# Altium footprint library IC.PcbLib: 83 footprints (part 3 of 6)
Each footprint in its own frame and in the unit in brackets; x right, y up, seen from the top. Pads: shape width x height; smd on the part's side, far side on the other; paste and mask are expansions set on the pad; w line width, h text height; cw(c..) or ccw(c..) is an arc to the next point about the centre after c.
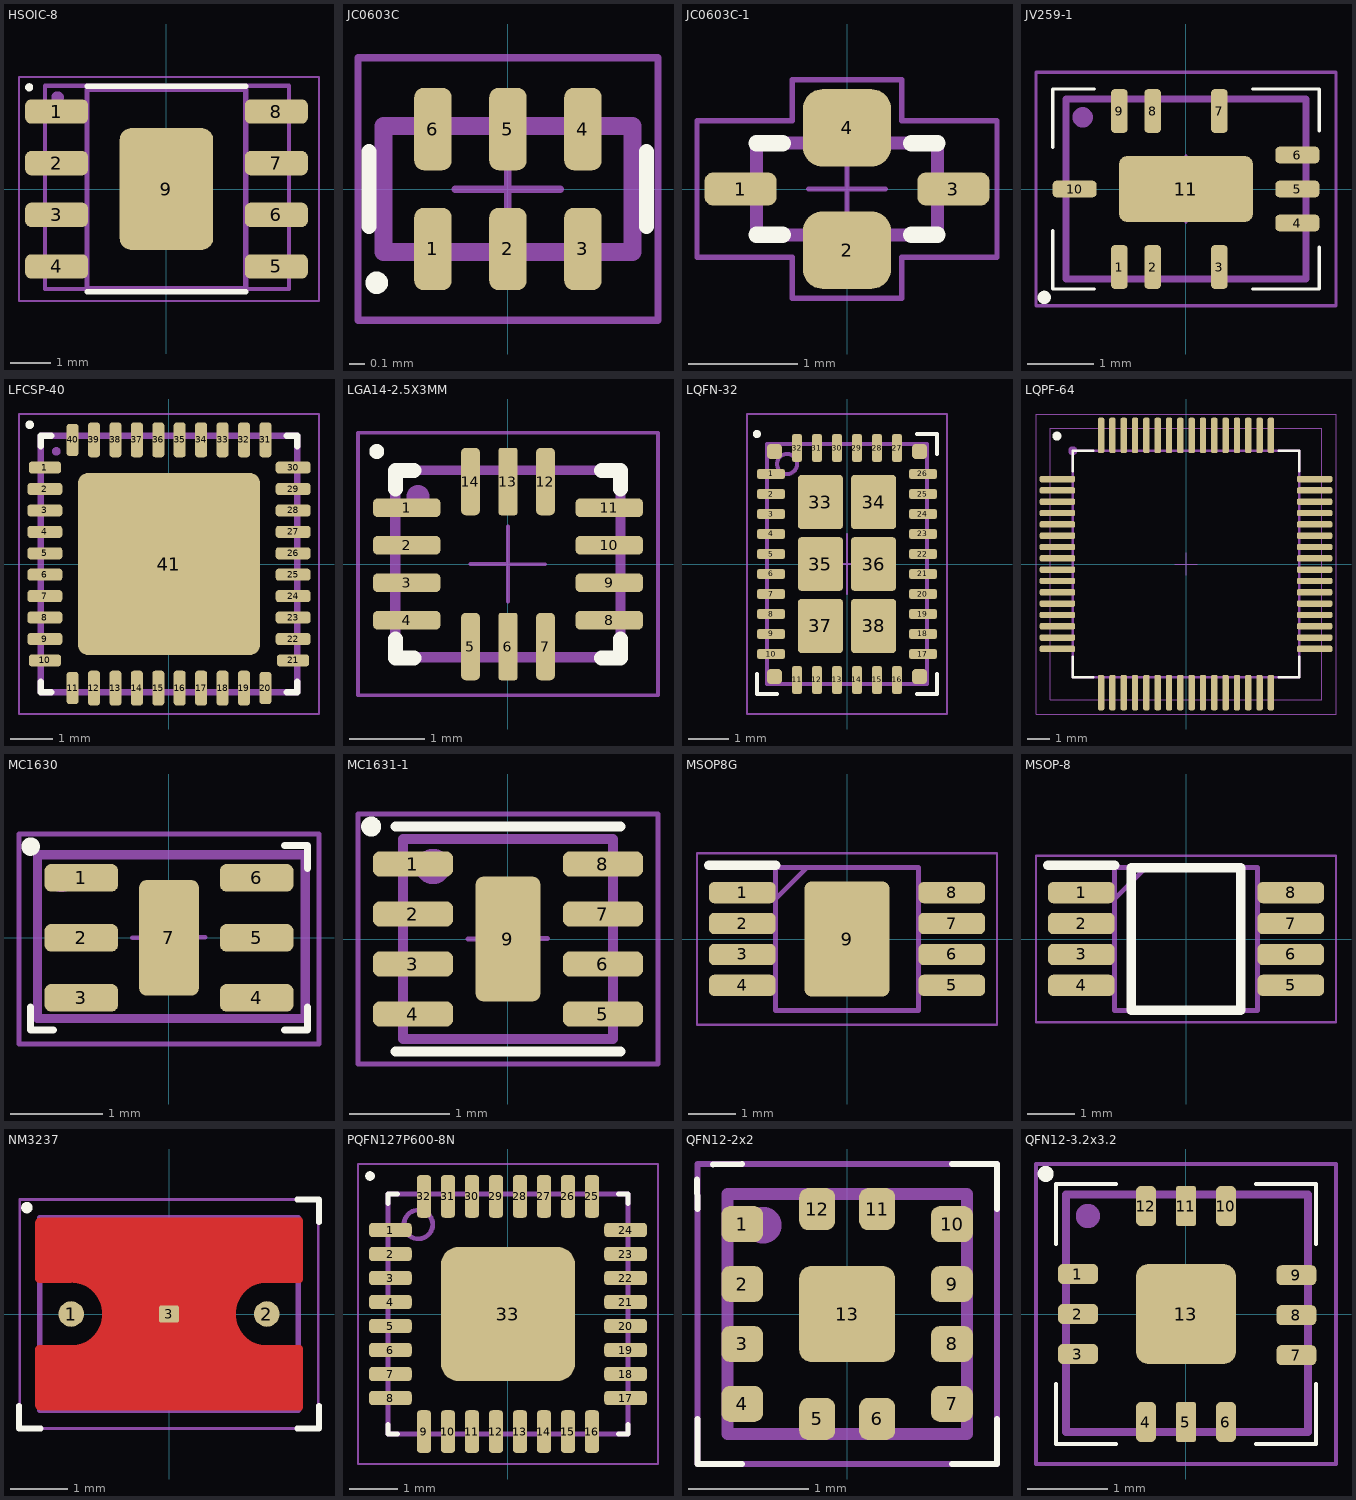
[diagram p2: the footprints below, top view; thin cyan lines are the x and y axes]

## HSOIC-8 [mm]
pads (9):
  rrect50% 1.55x0.6 smd: 1(-2.7,1.905) 2(-2.7,0.635) 3(-2.7,-0.635) 4(-2.7,-1.905) 5(2.7,-1.905) 6(2.7,-0.635) 7(2.7,0.635) 8(2.7,1.905)
  rrect25% 2.3x3 smd: 9(0,0)
Top Overlay:
  circle w0.1: c-3.375,2.5 r0.05
  lines w0.127: -1.95,-2.525 1.95,-2.525 ; -1.95,2.525 1.95,2.525
Top Assembly:
  circle w0.254: c-2.675,2.25 r0.025
  lines w0.1: -2.987,-2.462 3.013,-2.462 3.013,2.538 -2.987,2.538 -2.987,-2.462
  text ".Designator" at -1.126,-0.113 h0.5
Top 3D Body:
  lines w0.127: -1.95,-2.45 -1.95,2.45 1.95,2.45 1.95,-2.45 -1.95,-2.45
Top Courtyard:
  lines w0.05: -0.5,0 0,0 ; 0,-0.5 0,0 ; 0,0.5 0,0 ; 0.5,0 0,0 ; -3.625,-2.75 3.75,-2.75 3.75,2.75 -3.625,2.75 -3.625,-2.75
3D body "step_temp.STEP": height 1.7, standoff 0, extent -3,-2.45 3,2.45

## JC0603C [mm]
pads (6):
  rrect50% 0.25x0.55 smd: 1(-0.5,-0.4) 2(0,-0.4) 3(0.5,-0.4) 4(0.5,0.4) 5(0,0.4) 6(-0.5,0.4)
Top Overlay:
  circle w0.1: c-0.875,-0.625 r0.025
  lines w0.1: -0.925,-0.25 -0.925,0.25 ; 0.925,-0.25 0.925,0.25
Top Assembly:
  lines w0.12: -0.83,-0.42 0.83,-0.42 0.83,0.42 -0.83,0.42 -0.83,-0.42
  text ".Designator" at -0.674,-0.068 h0.3
Top Courtyard:
  lines w0.05: -0.35,0 0.35,0 ; 0,-0.35 0,0.35 ; -1,-0.875 1,-0.875 1,0.875 -1,0.875 -1,-0.875
3D body "HFCW-6010---3DModel-STEP-56544.STEP": height 0.6, standoff 0, extent -0.8,-0.4 0.8,0.4

## JC0603C-1 [mm]
pads (4):
  rrect50% 0.66x0.3 smd: 1(-0.975,0) 3(0.975,0)
  rrect50% 0.81x0.71 smd: 2(0,-0.56) 4(0,0.56)
Top Overlay:
  lines w0.15: -0.83,-0.42 -0.59,-0.42 ; -0.83,0.42 -0.59,0.42 ; 0.59,-0.42 0.83,-0.42 ; 0.59,0.42 0.83,0.42
Top Assembly:
  lines w0.12: -0.83,-0.42 -0.83,0.42 0.83,0.42 0.83,-0.42 -0.83,-0.42
  text ".Designator" at -0.674,-0.068 h0.3
Top Courtyard:
  lines w0.05: -0.35,0 0.35,0 ; 0,-0.35 0,0.35 ; -1.375,-0.625 -0.5,-0.625 -0.5,-1 0,-1 0.5,-1 0.5,-0.625 1.375,-0.625 1.375,-0.25 1.375,0 1.375,0.25 1.375,0.625 0.5,0.625 0.5,1 0,1 -0.5,1 -0.5,0.625 -1.375,0.625 -1.375,0.25 -1.375,0 -1.375,-0.25 -1.375,-0.625
3D body "CAPCAF4P0_160X79X61L15X71.STEP": height 0.61, standoff 0, extent -0.85,-0.445 0.85,0.445

## JV259-1 [mm]
pads (11):
  rrect50% 0.25x0.66 smd: 1(-1,-1.17) 2(-0.5,-1.17) 3(0.5,-1.17) 7(0.5,1.17) 8(-0.5,1.17) 9(-1,1.17)
  rrect50% 0.66x0.25 smd: 4(1.67,-0.51) 5(1.67,0) 6(1.67,0.51) 10(-1.67,0)
  rrect25% 2.01x0.99 smd: 11(0,0)
Top Overlay:
  circle w0.1: c-2.127,-1.626 r0.05
  lines w0.05: -2,-0.625 -2,-1.5 -1.375,-1.5 ; -2,0.625 -2,1.5 -1.375,1.5 ; 1,-1.5 2,-1.5 2,-0.875 ; 1,1.5 2,1.5 2,0.875
Top Paste:
  region: 0.875,0.398 0.104,0.398 0.104,-0.398 0.875,-0.398
  rectangle: -0.875,-0.398 -0.104,0.398
Top Assembly:
  circle w0.254: c-1.55,1.075 r0.025
  lines w0.1: -1.8,-1.35 1.8,-1.35 1.8,1.35 -1.8,1.35 -1.8,-1.35
  text ".Designator" at -1.126,-0.113 h0.5
Top Courtyard:
  lines w0.05: -0.5,0 0,0 ; 0,-0.5 0,0 ; 0,0.5 0,0 ; 0.5,0 0,0 ; -2.25,-1.75 2.25,-1.75 2.25,1.75 -2.25,1.75 -2.25,-1.75

## LFCSP-40 [mm]
pads (41):
  rrect50% 0.75x0.28 smd: 1(-2.896,2.25) 10(-2.896,-2.25) 21(2.896,-2.25)
  rrect50% 0.813x0.28 smd: 2(-2.896,1.75) 3(-2.896,1.25) 4(-2.896,0.75) 5(-2.896,0.25) 6(-2.896,-0.25) 7(-2.896,-0.75) 8(-2.896,-1.25) 9(-2.896,-1.75) 22(2.896,-1.75) 23(2.896,-1.25) 24(2.896,-0.75) 25(2.896,-0.25) 26(2.896,0.25) 27(2.896,0.75) 28(2.896,1.25) 29(2.896,1.75)
  rrect50% 0.28x0.75 smd: 11(-2.25,-2.896) 20(2.25,-2.896) 40(-2.25,2.896)
  rrect50% 0.28x0.813 smd: 12(-1.75,-2.896) 13(-1.25,-2.896) 14(-0.75,-2.896) 15(-0.25,-2.896) 16(0.25,-2.896) 17(0.75,-2.896) 18(1.25,-2.896) 19(1.75,-2.896) 32(1.75,2.896) 33(1.25,2.896) 34(0.75,2.896) 35(0.25,2.896) 36(-0.25,2.896) 37(-0.75,2.896) 38(-1.25,2.896) 39(-1.75,2.896)
  rrect50% 0.813x0.28 smd mask+0: 30(2.896,2.25)
  rrect50% 0.28x0.813 smd mask+0: 31(2.25,2.896)
  rrect10% 4.242x4.242 smd: 41(0,0)
Top Overlay:
  circle w0.1: c-3.25,3.25 r0.05
  lines w0.152: -2.997,-2.743 -2.997,-2.997 -2.743,-2.997 ; -2.997,2.743 -2.997,2.997 -2.743,2.997 ; 2.743,-2.997 2.997,-2.997 2.997,-2.743 ; 2.743,2.997 2.997,2.997 2.997,2.743
Top Assembly:
  circle w0.1: c-2.631,2.628 r0.05
  lines w0.152: -2.997,-2.388 -2.997,-2.108 ; -2.997,-1.905 -2.997,-1.6 ; -2.997,-1.397 -2.997,-1.092 ; -2.997,-0.889 -2.997,-0.61 ; -2.997,-0.406 -2.997,-0.102 ; -2.997,0.102 -2.997,0.406 ; -2.997,0.61 -2.997,0.889 ; -2.997,1.092 -2.997,1.397 ; -2.997,1.6 -2.997,1.905 ; -2.997,2.108 -2.997,2.388 ; -2.388,-2.997 -2.108,-2.997 ; -2.388,2.997 -2.108,2.997 ; -1.905,-2.997 -1.6,-2.997 ; -1.905,2.997 -1.6,2.997 ; -1.397,-2.997 -1.092,-2.997 ; -1.397,2.997 -1.092,2.997 ; -0.889,-2.997 -0.61,-2.997 ; -0.889,2.997 -0.61,2.997 ; -0.406,-2.997 -0.102,-2.997 ; -0.406,2.997 -0.102,2.997 ; 0.102,-2.997 0.406,-2.997 ; 0.102,2.997 0.406,2.997 ; 0.61,-2.997 0.889,-2.997 ; 0.61,2.997 0.889,2.997 ; 1.092,-2.997 1.397,-2.997 ; 1.092,2.997 1.397,2.997 ; 1.6,-2.997 1.905,-2.997 ; 1.6,2.997 1.905,2.997 ; 2.108,-2.997 2.388,-2.997 ; 2.108,2.997 2.388,2.997 ; 2.997,-2.388 2.997,-2.108 ; 2.997,-1.905 2.997,-1.6 ; 2.997,-1.397 2.997,-1.092 ; 2.997,-0.889 2.997,-0.61 ; 2.997,-0.406 2.997,-0.102 ; 2.997,0.102 2.997,0.406 ; 2.997,0.61 2.997,0.889 ; 2.997,1.092 2.997,1.397 ; 2.997,1.6 2.997,1.905 ; 2.997,2.108 2.997,2.388 ; -2.997,-2.997 2.997,-2.997 2.997,2.997 -2.997,2.997 -2.997,-2.997
  text ".Designator" at -3.378,-0.339 h1.5
Top Courtyard:
  lines w0.05: -0.45,0 0,0 ; 0,-0.45 0,0 ; 0,0.45 0,0 ; 0.45,0 0,0 ; -3.5,-3.5 3.5,-3.5 3.5,3.5 -3.5,3.5 -3.5,-3.5
3D body "step_temp.STEP": height 1, standoff 0, extent -3,-3 3,3

## LGA14-2.5X3MM [mm]
pads (14):
  rrect50% 0.9x0.25 smd: 1(-1.35,0.75) 2(-1.35,0.25) 3(-1.35,-0.25) 4(-1.35,-0.75) 8(1.35,-0.75) 9(1.35,-0.25) 10(1.35,0.25) 11(1.35,0.75)
  rrect50% 0.25x0.9 smd: 5(-0.5,-1.1) 7(0.5,-1.1) 12(0.5,1.1) 14(-0.5,1.1)
  rrect25% 0.25x0.9 smd: 6(0,-1.1) 13(0,1.1)
Top Overlay:
  circle w0.1: c-1.75,1.5 r0.05
  lines w0.2: -1.5,-1 -1.5,-1.25 -1.25,-1.25 ; -1.5,1 -1.5,1.25 -1.25,1.25 ; 1.25,-1.25 1.5,-1.25 1.5,-1 ; 1.25,1.25 1.5,1.25 1.5,1
Top Assembly:
  circle w0.254: c-1.2,0.9 r0.025
  lines w0.1: -1.525,-1.225 1.5,-1.225 1.5,1.25 -1.525,1.25 -1.525,-1.225
  text ".Designator" at -1.126,-0.113 h0.5
Top 3D Body:
  lines w0.127: -1.5,-1.25 -1.5,1.25 1.5,1.25 1.5,-1.25 -1.5,-1.25
Top Courtyard:
  lines w0.05: -0.5,0 0,0 ; -0.004,-0.003 0.496,-0.003 ; 0,-0.5 0,0 ; 0,0.5 0,0 ; -2,-1.75 2,-1.75 2,1.75 -2,1.75 -2,-1.75
3D body "step_temp.STEP": height 0.96, standoff 0, extent -1.5,-1.25 1.5,1.25

## LQFN-32 [mm]
pads (42):
  rrect50% 0.7x0.25 smd: 1(-1.9,2.25) 2(-1.9,1.75) 3(-1.9,1.25) 4(-1.9,0.75) 5(-1.9,0.25) 6(-1.9,-0.25) 7(-1.9,-0.75) 8(-1.9,-1.25) 9(-1.9,-1.75) 10(-1.9,-2.25) 17(1.9,-2.25) 18(1.9,-1.75) 19(1.9,-1.25) 20(1.9,-0.75) 21(1.9,-0.25) 22(1.9,0.25) 23(1.9,0.75) 24(1.9,1.25) 25(1.9,1.75) 26(1.9,2.25)
  rrect50% 0.25x0.7 smd: 11(-1.25,-2.9) 12(-0.75,-2.9) 13(-0.25,-2.9) 14(0.25,-2.9) 15(0.75,-2.9) 16(1.25,-2.9) 27(1.25,2.9) 28(0.75,2.9) 29(0.25,2.9) 30(-0.25,2.9) 31(-0.75,2.9) 32(-1.25,2.9)
  rrect15% 1.125x1.355 smd: 33(-0.663,1.548) 34(0.663,1.548) 37(-0.663,-1.548) 38(0.663,-1.548)
  rrect15% 1.125x1.34 smd: 35(-0.663,0) 36(0.663,0)
  rrect50% 0.375x0.375 smd: ""(-1.813,-2.813) ""(-1.813,2.813) ""(1.813,-2.813) ""(1.813,2.813)
Top Overlay:
  circle w0.1: c-2.25,3.25 r0.05
  lines w0.1: -2.25,-2.75 -2.25,-3.25 -1.75,-3.25 ; 1.75,-3.25 2.25,-3.25 2.25,-2.75 ; 1.75,3.25 2.25,3.25 2.25,2.75
Top Assembly:
  circle w0.1: c-1.5,2.5 r0.25
  lines w0.1: -2,-3 -2,3 2,3 2,-3 -2,-3
  text ".Designator" at -2.252,-0.226 h1
Top Courtyard:
  lines w0.05: -0.75,0 0,0 ; 0,-0.75 0,0 ; 0,0.75 0,0 ; 0.75,0 0,0 ; -2.5,-3.75 2.5,-3.75 2.5,3.75 -2.5,3.75 -2.5,-3.75
3D body "LT8645S.stp": height 1.13, standoff 0, extent -2,-3 2,3

## LQPF-64 [mm]
pads (64):
  rrect50% 1.56x0.28 smd: 1(-5.68,3.75) 2(-5.68,3.25) 3(-5.68,2.75) 4(-5.68,2.25) 5(-5.68,1.75) 6(-5.68,1.25) 7(-5.68,0.75) 8(-5.68,0.25) 9(-5.68,-0.25) 10(-5.68,-0.75) 11(-5.68,-1.25) 12(-5.68,-1.75) 13(-5.68,-2.25) 14(-5.68,-2.75) 15(-5.68,-3.25) 16(-5.68,-3.75) 33(5.68,-3.75) 34(5.68,-3.25) 35(5.68,-2.75) 36(5.68,-2.25) 37(5.68,-1.75) 38(5.68,-1.25) 39(5.68,-0.75) 40(5.68,-0.25) 41(5.68,0.25) 42(5.68,0.75) 43(5.68,1.25) 44(5.68,1.75) 45(5.68,2.25) 46(5.68,2.75) 47(5.68,3.25) 48(5.68,3.75)
  rrect50% 0.28x1.56 smd: 17(-3.75,-5.68) 18(-3.25,-5.68) 19(-2.75,-5.68) 20(-2.25,-5.68) 21(-1.75,-5.68) 22(-1.25,-5.68) 23(-0.75,-5.68) 24(-0.25,-5.68) 25(0.25,-5.68) 26(0.75,-5.68) 27(1.25,-5.68) 28(1.75,-5.68) 29(2.25,-5.68) 30(2.75,-5.68) 31(3.25,-5.68) 32(3.75,-5.68) 49(3.75,5.68) 50(3.25,5.68) 51(2.75,5.68) 52(2.25,5.68) 53(1.75,5.68) 54(1.25,5.68) 55(0.75,5.68) 56(0.25,5.68) 57(-0.25,5.68) 58(-0.75,5.68) 59(-1.25,5.68) 60(-1.75,5.68) 61(-2.25,5.68) 62(-2.75,5.68) 63(-3.25,5.68) 64(-3.75,5.68)
Top Overlay:
  circle w0.2: c-5.7,5.65 r0.1
  lines w0.127: -5,-4.1 -5,-5 -4.1,-5 ; -5,4.1 -5,5 -4.1,5 ; 4.1,-5 5,-5 5,-4.1 ; 4.1,5 5,5 5,4.1
Top Assembly:
  circle w0.2: c-5,5 r0.1
  lines w0.05: -6,-6 6,-6 6,6 -6,6 -6,-6
  text ".Designator" at -2.252,-0.226 h1
Top 3D Body:
  lines w0.127: -5,-5 -5,5 5,5 5,-5 -5,-5
Top Courtyard:
  lines w0.05: -0.5,0 0,0 ; 0,-0.5 0,0 ; 0,0.5 0,0 ; 0.5,0 0,0 ; -6.625,-6.625 6.625,-6.625 6.625,6.625 -6.625,6.625 -6.625,-6.625
3D body "FT4232HL.STEP": height 1.63, standoff 0.03, extent -6,-6 6,6

## MC1630 [mm]
pads (7):
  rrect50% 0.8x0.3 smd: 1(-0.95,0.65) 2(-0.95,0) 3(-0.95,-0.65) 4(0.95,-0.65) 5(0.95,0) 6(0.95,0.65)
  rrect25% 0.65x1.25 smd: 7(0,0)
Top Overlay:
  circle w0.1: c-1.499,0.989 r0.05
  lines w0.075: -1.5,-0.75 -1.5,-1 -1.25,-1 ; 1.25,-1 1.5,-1 1.5,-0.75 ; 1.25,1 1.5,1 1.5,0.75
Top Assembly:
  circle w0.254: c-1.168,0.649 r0.025
  lines w0.1: -1.425,-0.875 1.475,-0.875 1.475,0.9 -1.425,0.9 -1.425,-0.875
  text ".Designator" at -1.126,-0.113 h0.5
Top Courtyard:
  lines w0.05: -0.4,0 0,0 0,0.4 ; -0.005,0.006 0.395,0.006 ; -0.001,-0.398 -0.001,0.002 ; -1.625,-1.15 1.625,-1.15 1.625,1.125 -1.625,1.125 -1.625,-1.15
3D body "YAT-0A+.stp": height 0.85, standoff 0, extent -1.05,-1 1.05,1

## MC1631-1 [mm]
pads (9):
  rrect50% 0.8x0.25 smd: 1(-0.95,0.75) 2(-0.95,0.25) 3(-0.95,-0.25) 4(-0.95,-0.75) 5(0.95,-0.75) 6(0.95,-0.25) 7(0.95,0.25) 8(0.95,0.75)
  rrect25% 0.65x1.25 smd: 9(0,0)
Top Overlay:
  circle w0.1: c-1.368,1.125 r0.05
  lines w0.1: -1.125,-1.125 1.125,-1.125 ; -1.125,1.125 1.125,1.125
Top Assembly:
  circle w0.254: c-0.75,0.725 r0.05
  lines w0.1: -1.05,-1 1.05,-1 1.05,1 -1.05,1 -1.05,-1
  text ".Designator" at -1.126,-0.113 h0.5
Top Courtyard:
  lines w0.05: -0.399,0 0.001,0 0.001,0.4 ; -0.004,0.006 0.396,0.006 ; 0,-0.398 0,0.002 ; -1.5,-1.25 1.5,-1.25 1.5,1.25 -1.5,1.25 -1.5,-1.25
3D body "PMA2-183LN+.stp": height 1.05, standoff 0, extent -1.05,-1 1.05,1

## MSOP8G [mm]
pads (9):
  rrect50% 1.4x0.45 smd: 1(-2.2,0.975) 2(-2.2,0.325) 3(-2.2,-0.325) 4(-2.2,-0.975) 5(2.2,-0.975) 6(2.2,-0.325) 7(2.2,0.325) 8(2.2,0.975)
  rrect15% 1.78x2.41 smd paste-0.23: 9(0,0)
Top Overlay:
  lines w0.2: -2.9,1.55 -1.5,1.55
Top Assembly:
  lines w0.1: -1.5,0.85 -0.85,1.5 ; -1.5,-1.5 1.5,-1.5 1.5,1.5 -1.5,1.5 -1.5,-1.5
  text ".Designator" at -2.252,-0.226 h1
Top Courtyard:
  lines w0.05: -3.15,-1.8 3.15,-1.8 3.15,1.8 -3.15,1.8 -3.15,-1.8
3D body "HMC784AMS8GE.stp": height 1.1, standoff 0, extent -2.44,-1.5 2.44,1.5

## MSOP-8 [mm]
pads (8):
  rrect50% 1.4x0.45 smd: 1(-2.2,0.975) 2(-2.2,0.325) 3(-2.2,-0.325) 4(-2.2,-0.975) 5(2.2,-0.975) 6(2.2,-0.325) 7(2.2,0.325) 8(2.2,0.975)
Top Overlay:
  lines w0.2: -2.9,1.55 -1.5,1.55 ; -1.15,-1.5 -1.15,1.5 1.15,1.5 1.15,-1.5 -1.15,-1.5
Top Assembly:
  lines w0.1: -1.5,0.85 -0.85,1.5 ; -1.5,-1.5 -1.5,1.5 1.5,1.5 1.5,-1.5 -1.5,-1.5
  text ".Designator" at -2.252,-0.226 h1
Top Courtyard:
  lines w0.05: -3.15,-1.75 -3.15,1.75 3.15,1.75 3.15,-1.75 -3.15,-1.75
3D body "TC4428AEUA.stp": height 1.1, standoff 0, extent -2.45,-1.5 2.45,1.5

## NM3237 [mm]
pads (4):
  round 0.45 smd: 1(-1.72,0) 2(1.72,0)
  round 0.025 smd paste-2539.97: 3(0,0)
  rrect25% 0.35x0.3 smd paste-2539.97: 3(0,0)
Top Layer:
  region: -2.255,1.695 2.305,1.695 2.314,1.695 2.33,1.688 2.343,1.675 2.35,1.659 2.35,1.65 2.35,0.6 2.35,0.59 2.342,0.572 2.328,0.558 2.31,0.55 2.3,0.55 1.72,0.55 1.684,0.549 1.613,0.539 1.543,0.521 1.477,0.493 1.414,0.457 1.357,0.414 1.306,0.363 1.263,0.306 1.227,0.243 1.199,0.177 1.181,0.107 1.171,0.036 1.17,0 1.171,-0.036 1.181,-0.107 1.199,-0.177 1.227,-0.243 1.263,-0.306 1.306,-0.363 1.357,-0.414 1.414,-0.457 1.477,-0.493 1.543,-0.521 1.613,-0.539 1.684,-0.549 1.72,-0.55 2.3,-0.55 2.31,-0.55 2.328,-0.558 2.342,-0.572 2.35,-0.59 2.35,-0.6 2.35,-1.65 2.35,-1.659 2.343,-1.675 2.33,-1.688 2.314,-1.695 2.305,-1.695 -2.255,-1.695 -2.274,-1.695 -2.309,-1.681 -2.336,-1.654 -2.35,-1.619 -2.35,-1.6 -2.35,-0.625 -2.35,-0.61 -2.339,-0.582 -2.318,-0.561 -2.29,-0.55 -2.275,-0.55 -1.72,-0.55 -1.684,-0.549 -1.613,-0.539 -1.543,-0.521 -1.477,-0.493 -1.414,-0.457 -1.357,-0.414 -1.306,-0.363 -1.263,-0.306 -1.227,-0.243 -1.199,-0.177 -1.181,-0.107 -1.171,-0.036 -1.17,0 -1.171,0.036 -1.181,0.107 -1.199,0.177 -1.227,0.243 -1.263,0.306 -1.306,0.363 -1.357,0.414 -1.414,0.457 -1.477,0.493 -1.543,0.521 -1.613,0.539 -1.684,0.549 -1.72,0.55 -2.275,0.55 -2.29,0.55 -2.317,0.561 -2.339,0.583 -2.35,0.61 -2.35,0.625 -2.35,1.6 -2.35,1.619 -2.336,1.654 -2.309,1.681 -2.274,1.695
Top Overlay:
  circle w0.1: c-2.499,1.87 r0.05
  lines w0.1: -2.638,-1.616 -2.638,-2.013 -2.253,-2.013 ; 2.253,-2.013 2.638,-2.013 2.638,-1.616 ; 2.253,2.013 2.638,2.013 2.638,1.616
Top Paste:
  region: -2.163,-1.375 -2.163,-0.85 -2.163,-0.82 -2.14,-0.765 -2.097,-0.723 -2.042,-0.7 -2.013,-0.7 -0.337,-0.7 -0.308,-0.7 -0.253,-0.723 -0.21,-0.765 -0.187,-0.82 -0.187,-0.85 -0.187,-1.375 -0.187,-1.405 -0.21,-1.46 -0.253,-1.502 -0.308,-1.525 -0.337,-1.525 -2.013,-1.525 -2.042,-1.525 -2.097,-1.502 -2.14,-1.46 -2.163,-1.405
  region: 2.163,-1.375 2.163,-0.85 2.163,-0.82 2.14,-0.765 2.097,-0.723 2.042,-0.7 2.013,-0.7 0.337,-0.7 0.308,-0.7 0.253,-0.723 0.21,-0.765 0.187,-0.82 0.187,-0.85 0.187,-1.375 0.187,-1.405 0.21,-1.46 0.253,-1.502 0.308,-1.525 0.337,-1.525 2.013,-1.525 2.042,-1.525 2.097,-1.502 2.14,-1.46 2.163,-1.405
  region: 2.163,1.375 2.163,0.85 2.163,0.82 2.14,0.765 2.097,0.723 2.042,0.7 2.013,0.7 0.337,0.7 0.308,0.7 0.253,0.723 0.21,0.765 0.187,0.82 0.187,0.85 0.187,1.375 0.187,1.405 0.21,1.46 0.253,1.502 0.308,1.525 0.337,1.525 2.013,1.525 2.042,1.525 2.097,1.502 2.14,1.46 2.163,1.405
  region: -2.163,1.375 -2.163,0.85 -2.163,0.82 -2.14,0.765 -2.097,0.723 -2.042,0.7 -2.013,0.7 -0.337,0.7 -0.308,0.7 -0.253,0.723 -0.21,0.765 -0.187,0.82 -0.187,0.85 -0.187,1.375 -0.187,1.405 -0.21,1.46 -0.253,1.502 -0.308,1.525 -0.337,1.525 -2.013,1.525 -2.042,1.525 -2.097,1.502 -2.14,1.46 -2.163,1.405
  region: -0.988,0.275 -0.988,-0.25 -0.988,-0.28 -0.965,-0.335 -0.922,-0.377 -0.867,-0.4 -0.838,-0.4 0.838,-0.4 0.867,-0.4 0.922,-0.377 0.965,-0.335 0.988,-0.28 0.988,-0.25 0.988,0.275 0.988,0.305 0.965,0.36 0.922,0.402 0.867,0.425 0.838,0.425 -0.838,0.425 -0.867,0.425 -0.922,0.402 -0.965,0.36 -0.988,0.305
Top Assembly:
  circle w0.254: c-1.975,1.375 r0.056
  lines w0.1: -2.275,-1.695 2.275,-1.695 2.275,1.695 -2.275,1.695 -2.275,-1.695
  text ".Designator" at -1.126,-0.113 h0.5
Top Courtyard:
  lines w0.05: -0.4,0 0,0 ; 0,-0.4 0,0 ; 0,0.4 0,0 ; 0.4,0 0,0 ; -2.625,-2.013 2.625,-2.013 2.625,2.013 -2.625,2.013 -2.625,-2.013
3D body "BFHK-9901+.stp": height 1.49, standoff 0, extent -2.25,-1.6 2.25,1.6

## PQFN127P600-8N [mm]
pads (33):
  rrect50% 0.89x0.3 smd: 1(-2.45,1.75) 2(-2.45,1.25) 3(-2.45,0.75) 4(-2.45,0.25) 5(-2.45,-0.25) 6(-2.45,-0.75) 7(-2.45,-1.25) 8(-2.45,-1.75) 17(2.45,-1.75) 18(2.45,-1.25) 19(2.45,-0.75) 20(2.45,-0.25) 21(2.45,0.25) 22(2.45,0.75) 23(2.45,1.25) 24(2.45,1.75)
  rrect50% 0.3x0.89 smd: 9(-1.75,-2.45) 10(-1.25,-2.45) 11(-0.75,-2.45) 12(-0.25,-2.45) 13(0.25,-2.45) 14(0.75,-2.45) 15(1.25,-2.45) 16(1.75,-2.45) 25(1.75,2.45) 26(1.25,2.45) 27(0.75,2.45) 28(0.25,2.45) 29(-0.25,2.45) 30(-0.75,2.45) 31(-1.25,2.45) 32(-1.75,2.45)
  rrect25% 2.79x2.79 smd: 33(0,0)
Top Overlay:
  circle w0.1: c-2.875,2.875 r0.05
  lines w0.1: -2.5,-2.3 -2.5,-2.5 -2.3,-2.5 ; -2.5,2.3 -2.5,2.5 -2.3,2.5 ; 2.3,-2.5 2.5,-2.5 2.5,-2.3 ; 2.3,2.5 2.5,2.5 2.5,2.3
Top Assembly:
  circle w0.1: c-1.868,1.866 r0.3
  lines w0.1: -2.5,-2.5 2.5,-2.5 2.5,2.5 -2.5,2.5 -2.5,-2.5
  text ".Designator" at -1.126,-0.113 h0.5
Top Courtyard:
  lines w0.05: -0.5,0 0.5,0 ; 0,-0.5 0,0.5 ; -3.125,-3.125 3.125,-3.125 3.125,3.125 -3.125,3.125 -3.125,-3.125
3D body "PQFN127P600-8N.step": height 1, standoff 0, extent -2.5,-2.5 2.5,2.5

## QFN12-2x2 [mm]
pads (13):
  rrect50% 0.35x0.3 smd: 1(-0.875,0.75) 2(-0.875,0.25) 3(-0.875,-0.25) 4(-0.875,-0.75) 7(0.875,-0.75) 8(0.875,-0.25) 9(0.875,0.25) 10(0.875,0.75)
  rrect50% 0.3x0.35 smd: 5(-0.25,-0.875) 6(0.25,-0.875) 11(0.25,0.875) 12(-0.25,0.875)
  rrect25% 0.8x0.8 smd: 13(0,0)
Top Overlay:
  lines w0.05: -1.252,1.121 -1.25,0.876 ; -1.25,-0.876 -1.25,-1.25 -0.876,-1.25 ; -1.121,1.248 -0.876,1.25 ; 0.876,-1.25 1.25,-1.25 1.25,-0.876 ; 0.876,1.25 1.25,1.25 1.25,0.876
Top Assembly:
  circle w0.254: c-0.7,0.741 r0.025
  lines w0.1: -1,-1 1,-1 1,1 -1,1 -1,-1
  text ".Designator" at -1.126,-0.113 h0.5
Top Courtyard:
  lines w0.05: -0.275,0 0,0 ; 0,-0.275 0,0 ; 0,0.275 0,0 ; 0.275,0 0,0 ; -1.25,-1.25 1.25,-1.25 1.25,1.25 -1.25,1.25 -1.25,-1.25
3D body: height 0.5, standoff 0, extent -1,-1 1,1

## QFN12-3.2x3.2 [mm]
pads (13):
  rrect50% 0.5x0.25 smd: 1(-1.35,0.5) 2(-1.35,0) 3(-1.35,-0.5) 7(1.38,-0.515) 8(1.38,-0.015) 9(1.38,0.485)
  rrect50% 0.25x0.5 smd: 4(-0.5,-1.35) 6(0.5,-1.35) 10(0.5,1.35) 12(-0.5,1.35)
  rrect25% 0.25x0.5 smd: 5(0,-1.35) 11(0,1.35)
  rrect25% 1.25x1.25 smd: 13(0,0)
Top Overlay:
  circle w0.1: c-1.754,1.752 r0.05
  lines w0.05: -1.625,-0.875 -1.625,-1.625 -0.875,-1.625 ; -1.625,0.875 -1.625,1.625 -0.875,1.625 ; 0.875,-1.625 1.625,-1.625 1.625,-0.875 ; 0.875,1.625 1.625,1.625 1.625,0.875
Top Assembly:
  circle w0.254: c-1.225,1.225 r0.025
  lines w0.1: -1.5,-1.475 -1.5,1.491 1.525,1.491 1.525,-1.475 -1.5,-1.475
  text ".Designator" at -1.126,-0.113 h0.5
Top Courtyard:
  lines w0.05: -0.275,0 0,0 ; 0,-0.275 0,0 ; 0,0.275 0,0 ; 0.275,0 0,0 ; -1.875,-1.875 1.875,-1.875 1.875,1.875 -1.875,1.875 -1.875,-1.875
3D body: height 0.8, standoff 0, extent -1.5,-1.475 1.525,1.5